# EAGLE library part ADA4255ACPZ (library ADA4255ACPZ)
Zero-Drift Amplifier 1 Circuit Differential 28-LFCSP (5x5) Source: Datasheet <https://www.analog.com/ADA4255/datasheet?ADICID=SYND_WW_P682800_PF-spglobal>
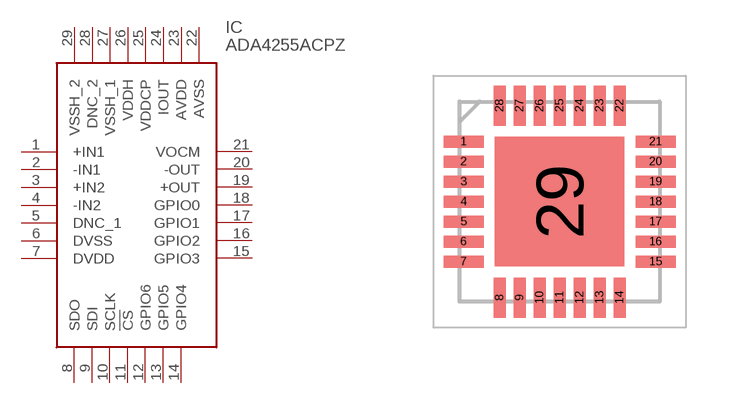
[diagram p0: symbol with the pads of QFN50P500X500X100-29N; footprint QFN50P500X500X100-29N]

Designator prefix IC

## ADA4255ACPZ (Arrow_Part_Number: ADA4255ACPZ; Arrow_Price-Stock: https://www.arrow.com/en/products/ada4255acpz/analog-devices?region=nac; Description: Zero-Drift Amplifier 1 Circuit Differential 28-LFCSP (5x5); Height: 1mm; Manufacturer_Name: Analog Devices; Manufacturer_Part_Number: ADA4255ACPZ; Mouser_Part_Number: 584-ADA4255ACPZ; Mouser_Price-Stock: https://www.mouser.co.uk/ProductDetail/Analog-Devices/ADA4255ACPZ?qs=Wj%2FVkw3K%252BMDakR%2FaS9ky3A%3D%3D)  [QFN50P500X500X100-29N]
1  +IN1
2  -IN1
3  +IN2
4  -IN2
5  DNC_1
6  DVSS
7  DVDD
8  SDO
9  SDI
10  SCLK
11  !CS
12  GPIO6
13  GPIO5
14  GPIO4
15  GPIO3
16  GPIO2
17  GPIO1
18  GPIO0
19  +OUT
20  -OUT
21  VOCM
22  AVSS
23  AVDD
24  IOUT
25  VDDCP
26  VDDH
27  VSSH_1
28  DNC_2
29  VSSH_2

## Footprint QFN50P500X500X100-29N (pad centres in mm)
CP-28-11
smd 1 x 0.3: 1 -2.4,1.5; 2 -2.4,1; 3 -2.4,0.5; 4 -2.4,0; 5 -2.4,-0.5; 6 -2.4,-1; 7 -2.4,-1.5; 15 2.4,-1.5; 16 2.4,-1; 17 2.4,-0.5; 18 2.4,0; 19 2.4,0.5; 20 2.4,1; 21 2.4,1.5
smd 0.3 x 1: 8 -1.5,-2.4; 9 -1,-2.4; 10 -0.5,-2.4; 11 0,-2.4; 12 0.5,-2.4; 13 1,-2.4; 14 1.5,-2.4; 22 1.5,2.4; 23 1,2.4; 24 0.5,2.4; 25 0,2.4; 26 -0.5,2.4; 27 -1,2.4; 28 -1.5,2.4
smd 3.24 x 3.24: 29 0,0